# Altium schematic symbol library WT32.SchLib: 1 symbol
Pins are listed as number, name and electrical type; pins without a type are passive.

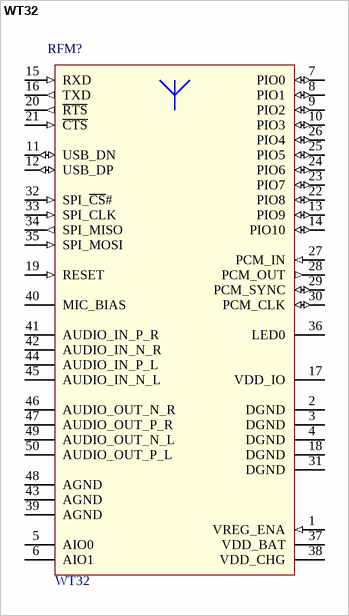
[diagram p0: symbol WT32]

## WT32
designator RFM?
value: WT32
footprint WT32 (WT32 Bluegiga module)
pins: 1 VREG_ENA (in), 2 DGND (power), 3 DGND (power), 4 DGND (power), 5 AIO0, 6 AIO1, 7 PIO0 (io), 8 PIO1 (io), 9 PIO2 (io), 10 PIO3 (io), 11 USB_DN (io), 12 USB_DP (io), 13 PIO9 (io), 14 PIO10 (io), 15 RXD (in), 16 TXD (out), 17 VDD_IO (power), 18 DGND (power), 19 RESET (in), 20 ~{RTS} (out), 21 ~{CTS} (in), 22 PIO8 (io), 23 PIO7 (io), 24 PIO6 (io), 25 PIO5 (io), 26 PIO4 (io), 27 PCM_IN (in), 28 PCM_OUT (out), 29 PCM_SYNC (io), 30 PCM_CLK (io), 31 DGND (power), 32 SPI_~{CS}# (in), 33 SPI_CLK (in), 34 SPI_MISO (out), 35 SPI_MOSI (in), 36 LED0 (oc), 37 VDD_BAT (power), 38 VDD_CHG (power), 39 AGND, 40 MIC_BIAS, 41 AUDIO_IN_P_R, 42 AUDIO_IN_N_R, 43 AGND, 44 AUDIO_IN_P_L, 45 AUDIO_IN_N_L, 46 AUDIO_OUT_N_R, 47 AUDIO_OUT_P_R, 48 AGND, 49 AUDIO_OUT_N_L, 50 AUDIO_OUT_P_L